# Altium footprint library cooler4040.PcbLib: 1 footprints
Each footprint in its own frame and in the unit in brackets; x right, y up, seen from the top. Pads: shape width x height; smd on the part's side, far side on the other; paste and mask are expansions set on the pad; w line width, h text height; cw(c..) or ccw(c..) is an arc to the next point about the centre after c.
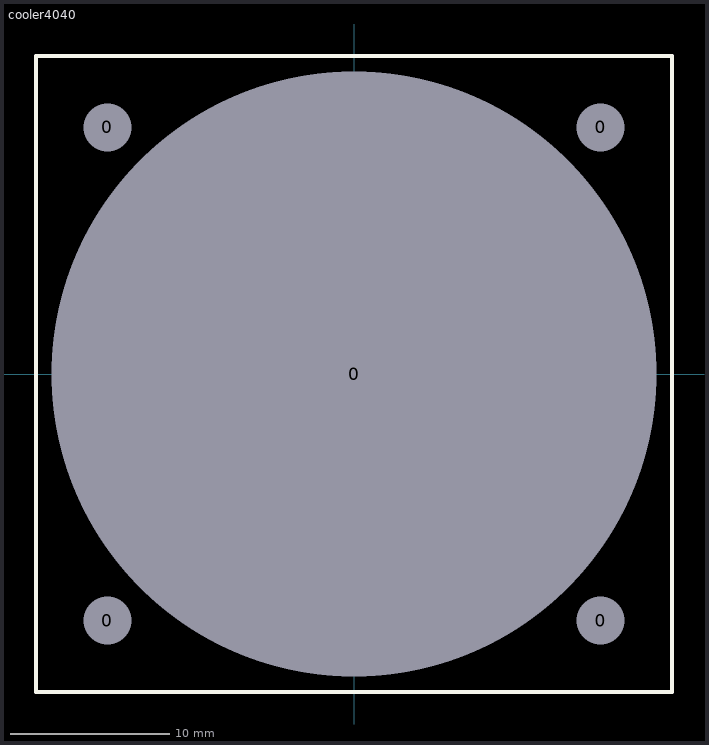
[diagram p0: the footprint, top view; thin cyan lines are the x and y axes]

## cooler4040 [mm]
pads (5):
  round 1.4 hole 3 unplated: 0(-15.5,-15.5) 0(-15.5,15.5) 0(15.5,-15.5) 0(15.5,15.5)
  round 1.4 hole 38 unplated: 0(0,0)
Top Overlay:
  lines w0.254: -20,-20 -20,20 20,20 20,-20 -20,-20
Mechanical 13:
  lines w0.254: -20,-20 -20,20 20,20 20,-20 -20,-20
3D body "¦¦TÃ¦¬¦¦TÀ 40TÅ40TÅ10.STEP": height 12.79, standoff -4.8, extent -20,-20 20,20